# EAGLE library part 253-111/000-006 (library con-wago_253)
Serie 253, 2-Leiter-Klemmenleiste für Leiterplatten 1 Lötstift/Pol versetzt / Series 253, 2-conductor PCB terminal strip 1 solder pin/pole, staggered Polzahl / Pole No.: 11 Rastermaß / Pitch: 5 mm Bemessungsspannung / Rated Voltage: 320 V Nennstrom / Nominal Current: 17.5 A Leiterquerschnitt / Conductor Size: 0.5 - 1.5 mm² Anschlusstechnik / Connection Technology: PUSH WIRE® Lötstiftlänge: / Solder Pin Length: 3.6 mm Leitereinführung (zur Platine) / Conductor entry angle (to PCB): 0 ° Farbe / Color: blau / blue Stand: 01.01.2012. Die jeweils aktuellen Daten zu diesem Artikel finden Sie in unserem Produktkatalog, den Sie unter www.wago.com einsehen können. As of: 01/01/2012. Please find the newest data for this article in our product catalogue, which can be viewed under www.wago.com.
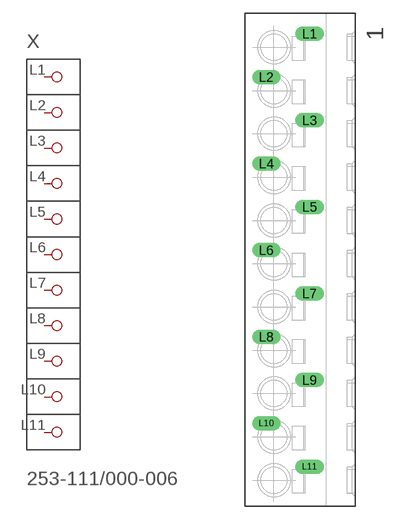
[diagram p49: symbol with the pads of P-253-111; footprint P-253-111]

Designator prefix X

## 253-111/000-006  [P-253-111]
L1  P1
L2  P2
L3  P3
L4  P4
L5  P5
L6  P6
L7  P7
L8  P8
L9  P9
L10  P10
L11  P11

## Footprint P-253-111 (pad centres in mm)
drill 1.1 long: L1 1.1,26.1; L2 -3.9,21.1; L3 1.1,16.1; L4 -3.9,11.1; L5 1.1,6.1; L6 -3.9,1.1; L7 1.1,-3.9; L8 -3.9,-8.9; L9 1.1,-13.9; L10 -3.9,-18.9; L11 1.1,-23.9